# Altium schematic symbol library NC7NZ34.SchLib: 1 symbol
Pins are listed as number, name and electrical type; pins without a type are passive.

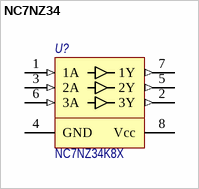
[diagram p0: symbol NC7NZ34]

## NC7NZ34
designator U?  Наименование: NC7NZ34K8X  (hidden comment: NC7NZ34)
TinyLogic UHS Triple Buffer; Потребление, Вт: 0.01; Назначение: TinyLogic UHS Triple Buffer; ComponentLink1Description: DataSheet; ComponentLink1URL: https://www.onsemi.com/pdf/datasheet/nc7nz34-d.pdf; Supplier 1: Digi-Key; Supplier Part Number 1: NC7NZ34K8XCT-ND
footprint US-8 (US, 8-Leads, Body 2,30x2,00mm, Pitch 0,50mm, IPC Medium Density)
pins: 1 1A (in) "In 1", 2 3Y (out) "Out 3", 3 2A (in) "In 2", 4 GND (power), 5 2Y (out) "Out 2", 6 3A (in) "In 3", 7 1Y (out) "Out 1", 8 Vcc (power)